# EAGLE library part 74HCT151D,653 (library SamacSys_Parts)
74HC(T)151 - 8-input multiplexer@en-us Source: Datasheet <https://assets.nexperia.com/documents/data-sheet/74HC_HCT151.pdf>
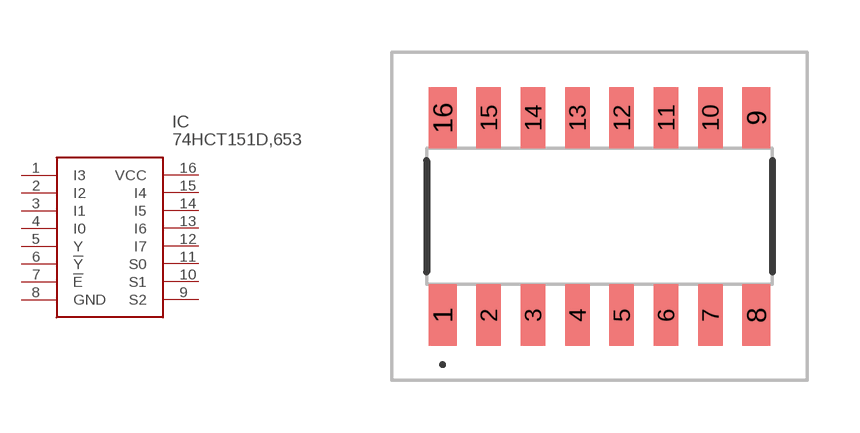
[diagram p139: symbol with the pads of 74HCT151D653; footprint 74HCT151D653]

Designator prefix IC

## 74HCT151D,653 (DESCRIPTION: 74HC(T)151 - 8-input multiplexer@en-us; HEIGHT: 1.75mm; MANUFACTURER_NAME: Nexperia; MANUFACTURER_PART_NUMBER: 74HCT151D,653; MOUSER_PART_NUMBER: 771-74HCT151D-T; MOUSER_PRICE-STOCK: https://www.mouser.co.uk/ProductDetail/Nexperia/74HCT151D653?qs=P62ublwmbi8bLpnhyEqh4Q%3D%3D)  [74HCT151D653]
1  I3
2  I2
3  I1
4  I0
5  Y
6  !Y
7  !E
8  GND
9  S2
10  S1
11  S0
12  I7
13  I6
14  I5
15  I4
16  VCC

## Footprint 74HCT151D653 (pad centres in mm)
74HCT151D,653-1
smd 0.8 x 1.75: 1 -4.495,-2.825; 8 4.495,-2.825; 9 4.495,2.825; 16 -4.495,2.825
smd 0.7 x 1.75: 2 -3.175,-2.825; 3 -1.905,-2.825; 4 -0.635,-2.825; 5 0.635,-2.825; 6 1.905,-2.825; 7 3.175,-2.825; 10 3.175,2.825; 11 1.905,2.825; 12 0.635,2.825; 13 -0.635,2.825; 14 -1.905,2.825; 15 -3.175,2.825